# Altium schematic symbol library Schlib_LeaderTech.SchLib: 3 symbols
Pins are listed as number, name and electrical type; pins without a type are passive.

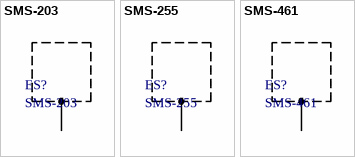
[diagram p0: symbols SMS-203 to SMS-461]

## SMS-203
designator ES?
Two Piece Surface Mount EMI Shields 26.26x26.26 mm; Manufacturer: Leader Tech Inc.; Part Number: SMS-203
footprint SMS-203 (2-Piece Shield)
pins: M1

## SMS-255
designator ES?
Two Piece Surface Mount EMI Shields 19.05x19.05 mm; Manufacturer: Leader Tech Inc.; Part Number: SMS-255
footprint SMS-255 (2-Piece Shield)
pins: M1

## SMS-461
designator ES?
Two Piece Surface Mount EMI Shields 27.18x56.03 mm; Manufacturer: Leader Tech Inc.; Part Number: SMS-461
footprint SMS-461 (2-Piece Shield)
pins: M1